# Altium footprint library ESP-12F.PcbLib: 1 footprints
Each footprint in its own frame and in the unit in brackets; x right, y up, seen from the top. Pads: shape width x height; smd on the part's side, far side on the other; paste and mask are expansions set on the pad; w line width, h text height; cw(c..) or ccw(c..) is an arc to the next point about the centre after c.
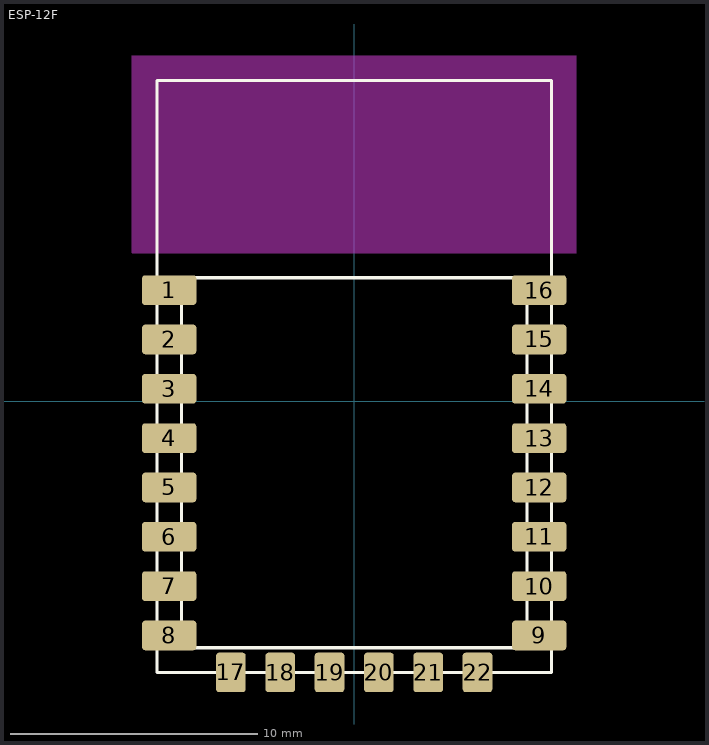
[diagram p0: the footprint, top view; thin cyan lines are the x and y axes]

## ESP-12F [mm]
pads (22):
  rrect20% 2.2x1.2 smd: 1(-7.5,4.5) 2(-7.5,2.5) 3(-7.5,0.5) 4(-7.5,-1.5) 5(-7.5,-3.5) 6(-7.5,-5.5) 7(-7.5,-7.5) 8(-7.5,-9.5) 9(7.5,-9.5) 10(7.5,-7.5) 11(7.5,-5.5) 12(7.5,-3.5) 13(7.5,-1.5) 14(7.5,0.5) 15(7.5,2.5) 16(7.5,4.5)
  rrect20% 1.2x1.6 smd: 17(-5,-11) 18(-3,-11) 19(-1,-11) 20(1,-11) 21(3,-11) 22(5,-11)
Top Overlay:
  lines w0.127: -8,-11 -8,13 8,13 8,-11 -8,-11 ; -7,-10 -7,5 7,5 7,-10 -7,-10
Keep-Out Layer:
  region: 9,6.011 -9.016,6.011 -9.016,14 9,14
  region: 9,6.005 -9.007,6.005 -9.007,14 9,14
3D body "ESP-12F.step": height 3.1, standoff 0, extent -8.85,-11.884 8.85,13.016